# EAGLE library part 4020269 (library ampex)
Record EQ Card
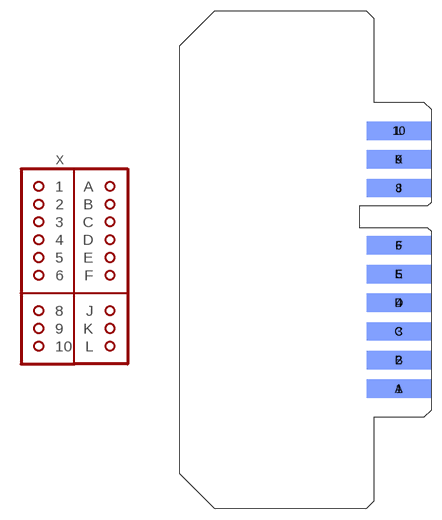
[diagram p4: symbol with the pads of 4020269; footprint 4020269]

Designator prefix X

## 4020269  [4020269]
1  1  pas
2  2  pas
3  3  pas
4  4  pas
5  5  pas
6  6  pas
8  8  pas
9  9  pas
10  10  pas
A  A  pas
B  B  pas
C  C  pas
D  D  pas
E  E  pas
F  F  pas
J  J  pas
K  K  pas
L  L  pas

## Footprint 4020269 (pad centres in mm)
RECORD EQ
smd 8.89 x 2.54: 1 2.832,-40.183; 2 2.832,-36.22; 3 2.832,-32.258; 4 2.832,-28.296; 5 2.832,-24.333; 6 2.832,-20.371; 8 2.832,-12.446; 9 2.832,-8.484; 10 2.832,-4.521
smd 8.89 x 2.54 bottom: A 2.832,-40.183; B 2.832,-36.22; C 2.832,-32.258; D 2.832,-28.296; E 2.832,-24.333; F 2.832,-20.371; J 2.832,-12.446; K 2.832,-8.484; L 2.832,-4.521